# Altium footprint library jst-xa.PcbLib: 7 footprints
Each footprint in its own frame and in the unit in brackets; x right, y up, seen from the top. Pads: shape width x height; smd on the part's side, far side on the other; paste and mask are expansions set on the pad; w line width, h text height; cw(c..) or ccw(c..) is an arc to the next point about the centre after c.
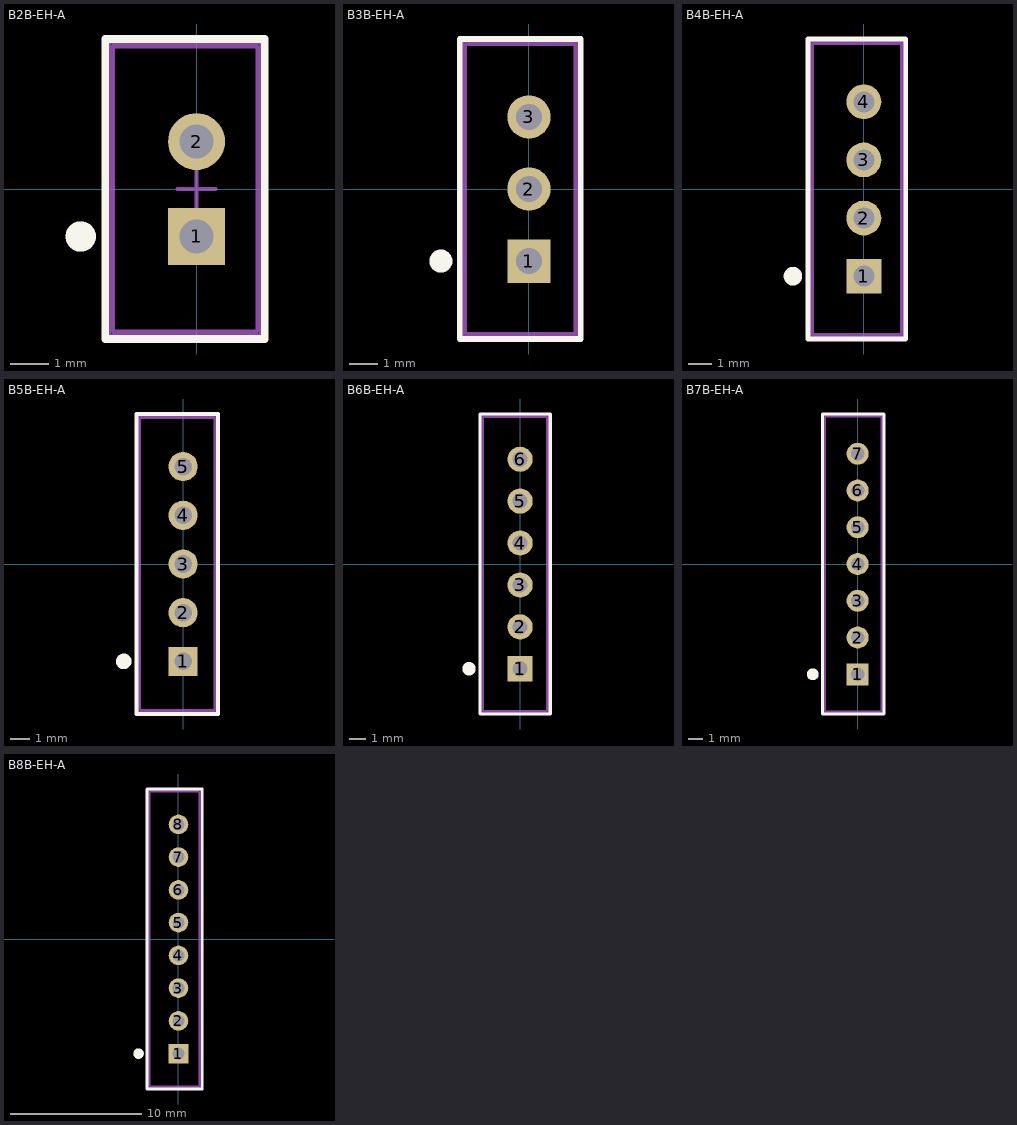
[diagram p0: the footprints below, top view; thin cyan lines are the x and y axes]

## B2B-EH-A [mm] "2 pos, 2.5mm Wire to Board Connector"
height 4.7
pads (2):
  rect 1.5x1.5 hole 0.9: 1(0,-1.25)
  round 1.5 hole 0.9: 2(0,1.25)
Top Overlay:
  circle w0.4: c-3.05,-1.25 r0.2
  lines w0.2: -2.4,-3.95 1.8,-3.95 1.8,3.95 -2.4,3.95 -2.4,-3.95
Mechanical 13:
  lines w0.1: -0.5,0 0.5,0 ; 0,-0.5 0,0.5 ; -2.2,-3.75 1.6,-3.75 1.6,3.75 -2.2,3.75 -2.2,-3.75
Mechanical 15:
  lines w0.1: -2.3,-3.85 -2.3,3.85 1.7,3.85 1.7,-3.85 -2.3,-3.85
  text ".Designator" at 1.875,-2.775 h0.8
3D body: height 6, standoff -3.2, extent -2.2,-3.75 1.6,3.75

## B3B-EH-A [mm] "3 pos, 2.5mm Wire to Board Connector"
height 4.7
pads (3):
  rect 1.5x1.5 hole 0.9: 1(0,-2.5)
  round 1.5 hole 0.9: 2(0,0) 3(0,2.5)
Top Overlay:
  circle w0.4: c-3.05,-2.5 r0.2
  lines w0.2: -2.4,-5.2 -2.4,5.2 1.8,5.2 1.8,-5.2 -2.4,-5.2
Mechanical 13:
  lines w0.1: -0.5,0 0.5,0 ; 0,-0.5 0,0.5 ; -2.2,-5 -2.2,5 1.6,5 1.6,-5 -2.2,-5
Mechanical 15:
  lines w0.1: -2.3,-5.1 1.7,-5.1 1.7,5.1 -2.3,5.1 -2.3,-5.1
  text ".Designator" at 1.875,-2.775 h0.8
3D body: height 6, standoff -3.2, extent -2.2,-5 1.6,5

## B4B-EH-A [mm] "4 pos, 2.5mm Wire to Board Connector"
height 4.7
pads (4):
  rect 1.5x1.5 hole 0.9: 1(0,-3.75)
  round 1.5 hole 0.9: 2(0,-1.25) 3(0,1.25) 4(0,3.75)
Top Overlay:
  circle w0.4: c-3.05,-3.75 r0.2
  lines w0.2: -2.4,-6.45 1.8,-6.45 1.8,6.45 -2.4,6.45 -2.4,-6.45
Mechanical 13:
  lines w0.1: -0.5,-1.25 0.5,-1.25 ; 0,-1.75 0,-0.75 ; -2.2,-6.25 1.6,-6.25 1.6,6.25 -2.2,6.25 -2.2,-6.25
Mechanical 15:
  lines w0.1: -2.3,-6.35 -2.3,6.35 1.7,6.35 1.7,-6.35 -2.3,-6.35
  text ".Designator" at 1.875,-4.025 h0.8
3D body: height 6, standoff -3.2, extent -2.2,-6.25 1.6,6.25

## B5B-EH-A [mm] "5 pos, 2.5mm Wire to Board Connector"
height 4.7
pads (5):
  rect 1.5x1.5 hole 0.9: 1(0,-5)
  round 1.5 hole 0.9: 2(0,-2.5) 3(0,0) 4(0,2.5) 5(0,5)
Top Overlay:
  circle w0.4: c-3.05,-5 r0.2
  lines w0.2: -2.4,-7.7 -2.4,7.7 1.8,7.7 1.8,-7.7 -2.4,-7.7
Mechanical 13:
  lines w0.1: -0.5,-2.5 0.5,-2.5 ; 0,-3 0,-2 ; -2.2,-7.5 -2.2,7.5 1.6,7.5 1.6,-7.5 -2.2,-7.5
Mechanical 15:
  lines w0.1: -2.3,-7.6 1.7,-7.6 1.7,7.6 -2.3,7.6 -2.3,-7.6
  text ".Designator" at 1.875,-5.275 h0.8
3D body: height 6, standoff -3.2, extent -2.2,-7.5 1.6,7.5

## B6B-EH-A [mm] "6 pos, 2.5mm Wire to Board Connector"
height 4.7
pads (6):
  rect 1.5x1.5 hole 0.9: 1(0,-6.25)
  round 1.5 hole 0.9: 2(0,-3.75) 3(0,-1.25) 4(0,1.25) 5(0,3.75) 6(0,6.25)
Top Overlay:
  circle w0.4: c-3.05,-6.25 r0.2
  lines w0.2: -2.4,-8.95 -2.4,8.95 1.8,8.95 1.8,-8.95 -2.4,-8.95
Mechanical 13:
  lines w0.1: -0.5,-3.75 0.5,-3.75 ; 0,-4.25 0,-3.25 ; -2.2,-8.75 -2.2,8.75 1.6,8.75 1.6,-8.75 -2.2,-8.75
Mechanical 15:
  lines w0.1: -2.3,-8.85 1.7,-8.85 1.7,8.85 -2.3,8.85 -2.3,-8.85
  text ".Designator" at 1.875,-6.525 h0.8
3D body: height 6, standoff -3.2, extent -2.2,-8.75 1.6,8.75

## B7B-EH-A [mm] "7 pos, 2.5mm Wire to Board Connector"
height 4.7
pads (7):
  rect 1.5x1.5 hole 0.9: 1(0,-7.5)
  round 1.5 hole 0.9: 2(0,-5) 3(0,-2.5) 4(0,0) 5(0,2.5) 6(0,5) 7(0,7.5)
Top Overlay:
  circle w0.4: c-3.05,-7.5 r0.2
  lines w0.2: -2.4,-10.2 -2.4,10.2 1.8,10.2 1.8,-10.2 -2.4,-10.2
Mechanical 13:
  lines w0.1: -0.5,-5 0.5,-5 ; 0,-5.5 0,-4.5 ; -2.2,-10 -2.2,10 1.6,10 1.6,-10 -2.2,-10
Mechanical 15:
  lines w0.1: -2.3,-10.1 1.7,-10.1 1.7,10.1 -2.3,10.1 -2.3,-10.1
  text ".Designator" at 1.875,-7.775 h0.8
3D body: height 6, standoff -3.2, extent -2.2,-10 1.6,10

## B8B-EH-A [mm] "8 pos, 2.5mm Wire to Board Connector"
height 4.7
pads (8):
  rect 1.5x1.5 hole 0.9: 1(0,-8.75)
  round 1.5 hole 0.9: 2(0,-6.25) 3(0,-3.75) 4(0,-1.25) 5(0,1.25) 6(0,3.75) 7(0,6.25) 8(0,8.75)
Top Overlay:
  circle w0.4: c-3.05,-8.75 r0.2
  lines w0.2: -2.4,-11.45 -2.4,11.45 1.8,11.45 1.8,-11.45 -2.4,-11.45
Mechanical 13:
  lines w0.1: -0.5,-6.25 0.5,-6.25 ; 0,-6.75 0,-5.75 ; 1.6,11.2 1.6,-11.25 -2.2,-11.25 -2.2,11.25 1.6,11.25
Mechanical 15:
  lines w0.1: -2.3,-11.35 1.7,-11.35 1.7,11.35 -2.3,11.35 -2.3,-11.35
  text ".Designator" at 0.35,-2.625 h0.8
3D body: height 6, standoff -3.2, extent -2.2,-11.25 1.6,11.25